# Altium footprint library SON_127P_V.PcbLib: 1 footprints
Each footprint in its own frame and in the unit in brackets; x right, y up, seen from the top. Pads: shape width x height; smd on the part's side, far side on the other; paste and mask are expansions set on the pad; w line width, h text height; cw(c..) or ccw(c..) is an arc to the next point about the centre after c.
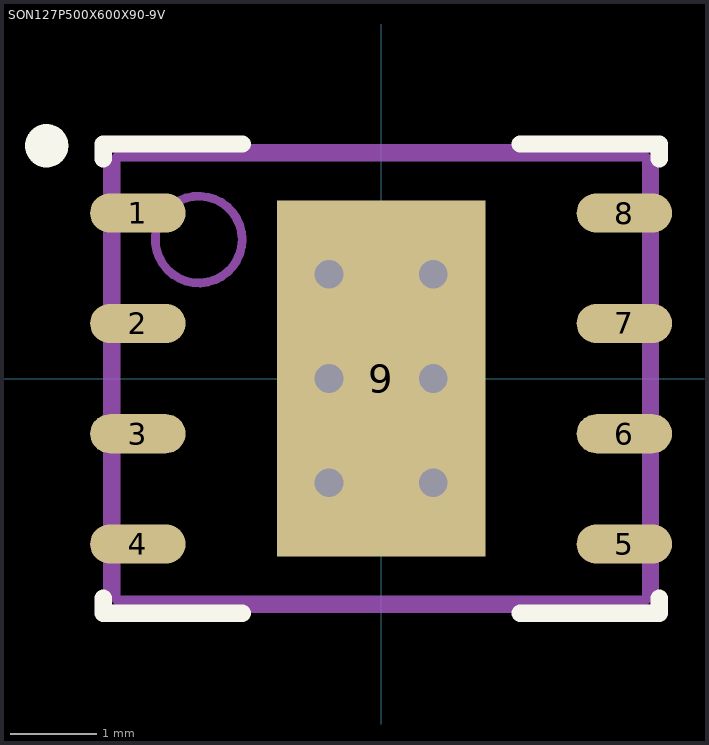
[diagram p0: the footprint, top view; thin cyan lines are the x and y axes]

## SON127P500X600X90-9V [mm] "SON, 8-Leads, Body 5x6mm, Pitch 1.27mm, Microchip Recommended"
height 1
pads (9):
  oval 1.1x0.45 smd: 1(-2.8,1.905) 2(-2.8,0.635) 3(-2.8,-0.635) 4(-2.8,-1.905) 5(2.8,-1.905) 6(2.8,-0.635) 7(2.8,0.635) 8(2.8,1.905)
  rect 2.4x4.1 smd: 9(0,0)
via -0.6,1.2 diameter 0.66 hole 0.33
via 0.6,1.2 diameter 0.66 hole 0.33
via -0.6,0 diameter 0.66 hole 0.33
via 0.6,0 diameter 0.66 hole 0.33
via -0.6,-1.2 diameter 0.66 hole 0.33
via 0.6,-1.2 diameter 0.66 hole 0.33
Top Overlay:
  circle w0.25: c-3.85,2.68 r0.125
  lines w0.2: -3.2,-2.53 -3.2,-2.7 -1.6,-2.7 ; -3.2,2.53 -3.2,2.7 -1.6,2.7 ; 1.6,-2.7 3.2,-2.7 3.2,-2.53 ; 1.6,2.7 3.2,2.7 3.2,2.53
Mechanical 13:
  circle w0.1: c-2.1,1.6 r0.5
  lines w0.1: -3.05,-2.55 -3.05,2.55 3.05,2.55 3.05,-2.55 -3.05,-2.55
Mechanical 15:
  lines w0.1: -0.5,0 0.5,0 ; 0,-0.5 0,0.5 ; -3.15,-2.65 -3.15,2.65 3.15,2.65 3.15,-2.65 -3.15,-2.65
3D body: height 1, standoff 0, extent -3.05,-2.55 3.05,2.55